# Altium schematic symbol library kmilo17pet-NSC_LDO.SchLib: 2675 symbols (part 15 of 65)
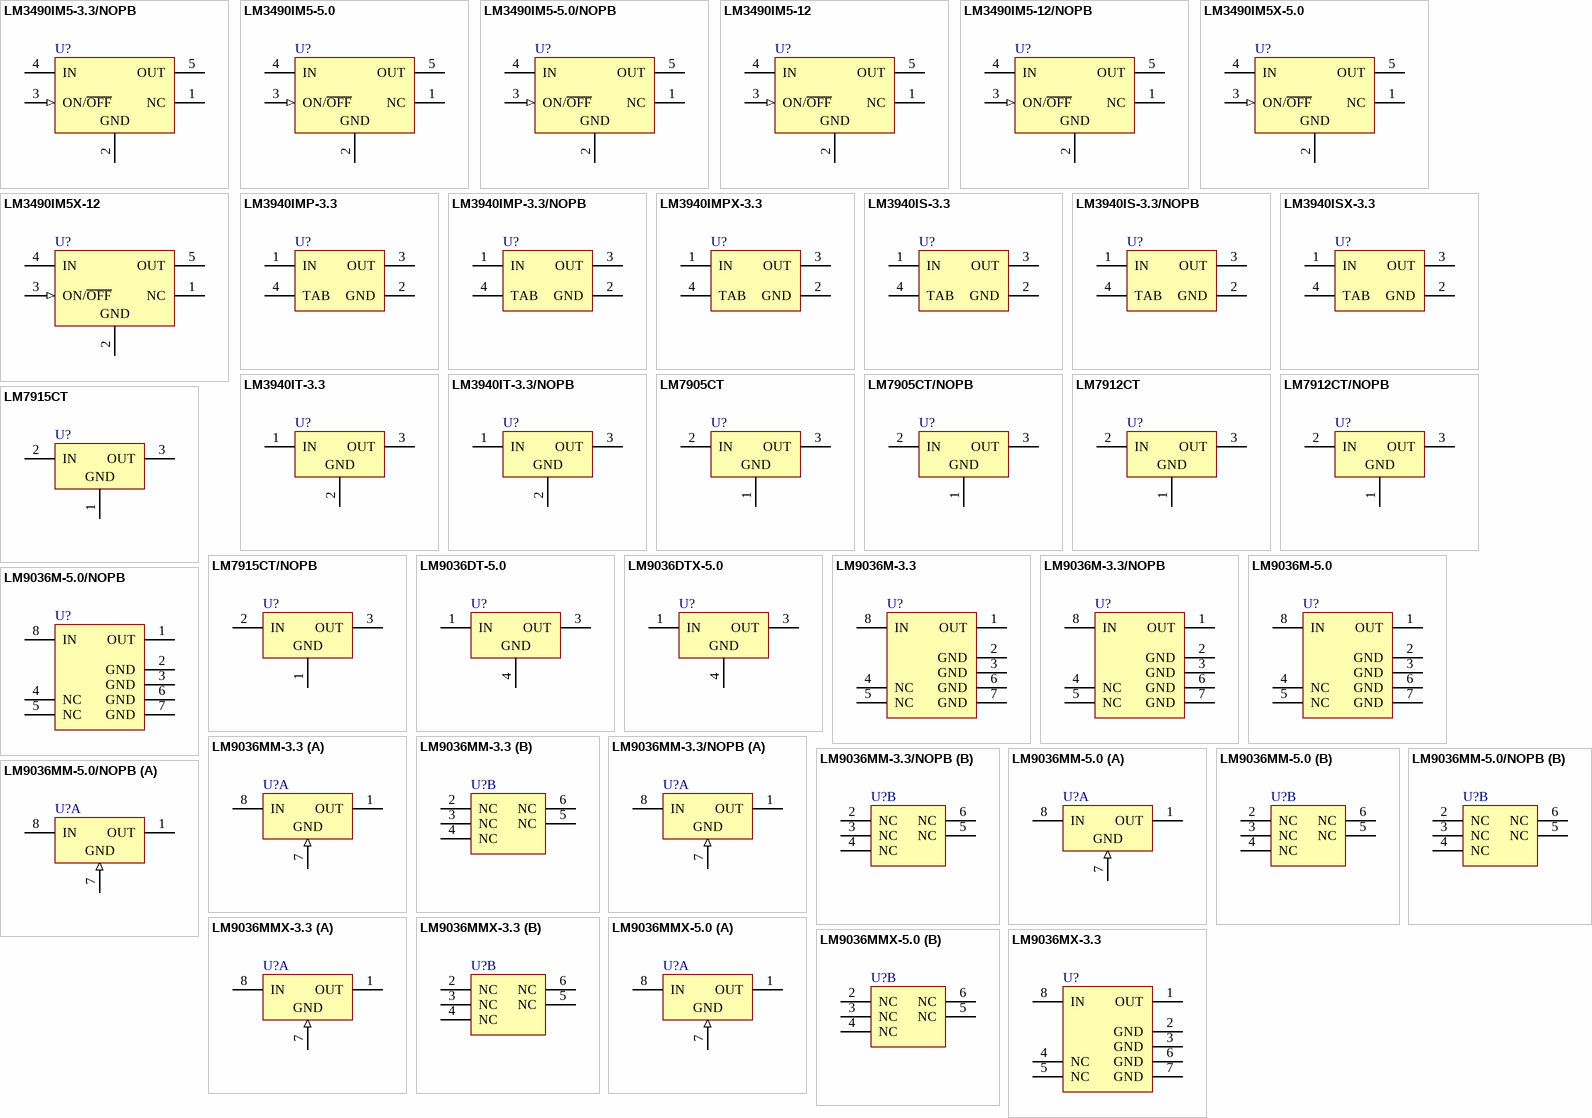
[diagram p81: symbols LM3490IM5-3.3/NOPB to LM9036MX-3.3]

## LM3940ISX-3.3
designator U?
1A Low Dropout Regulator for 5V to 3.3V Conversion, 3-pin TO-263; PartNumber: LM3940ISX-3.3; Manufacturer: National Semiconductor; PackageTopMarking: NSUZXYTTE#*LM3940IS*-3.3 P+; PowerWise: N; CompType: LDO IC; High-Reliability: Y; DatasheetVersion: Jul-2007; PackageVersion: revF, Apr-2005; PackageReference: TS3B; PackageDescription: TO-263, Molded, .400 x .390 x .180in, 3 Lead, .1in Pitch, Surface Mount; RoHS: N; PinCount: 3; Code_JEDEC: MO-169-AA; ComponentLink1Description: Manufacturer URL; ComponentLink1URL: http://www.national.com/; ComponentLink2Description: LM3940 Datasheet; ComponentLink2URL: http://www.national.com/ds/LM/LM3940.pdf; ComponentLink3Description: LM3940 Web Page; ComponentLink3URL: http://www.national.com/pf/LM/LM3940.html; ComponentLink4Description: TS3B Package Page; ComponentLink4URL: http://www.national.com/packaging/folders/ts3b.html
footprint TS3B_N (D2-PAK, 4-Leads, Body 8.6x10.2mm, Pitch 2.54mm, Lead Span 14.2mm, IPC Medium Density)
footprint TS3B_L (D2-PAK, 4-Leads, Body 8.6x10.2mm, Pitch 2.54mm, Lead Span 14.2mm, IPC High Density)
footprint TS3B_M (D2-PAK, 4-Leads, Body 8.6x10.2mm, Pitch 2.54mm, Lead Span 14.2mm, IPC Low Density)
pins: 1 IN (power), 2 GND (power), 3 OUT (power), 4 TAB (power)

## LM3940IT-3.3
designator U?
1A Low Dropout Regulator for 5V to 3.3V Conversion, 3-pin TO-220; PartNumber: LM3940IT-3.3; Manufacturer: National Semiconductor; PackageTopMarking: NSUZXYTTE#*LM3940IT*-3.3 P+; PowerWise: N; CompType: LDO IC; High-Reliability: Y; DatasheetVersion: Jul-2007; PackageVersion: revL, Jan-1992; PackageReference: T03B; PackageDescription: TO-220, Molded, 3 Lead, Straight; RoHS: N; PinCount: 3; ComponentLink1Description: Manufacturer URL; ComponentLink1URL: http://www.national.com/; ComponentLink2Description: LM3940 Datasheet; ComponentLink2URL: http://www.national.com/ds/LM/LM3940.pdf; ComponentLink3Description: LM3940 Web Page; ComponentLink3URL: http://www.national.com/pf/LM/LM3940.html; ComponentLink4Description: T03B Package Page; ComponentLink4URL: http://www.national.com/packaging/folders/t03b.html
footprint T03B (TO, Thru-Hole, Vertical, Heatsink Mounted; 3 In-Line Leads; Pitch 2.54 mm)
pins: 1 IN (power), 2 GND (power), 3 OUT (power)

## LM3940IT-3.3/NOPB
designator U?
1A Low Dropout Regulator for 5V to 3.3V Conversion, 3-pin TO-220, Pb-Free; PartNumber: LM3940IT-3.3/NOPB; Manufacturer: National Semiconductor; PackageTopMarking: NSUZXYTTE#*LM3940IT*-3.3 P+; PowerWise: N; CompType: LDO IC; High-Reliability: Y; DatasheetVersion: Jul-2007; PackageVersion: revL, Jan-1992; PackageReference: T03B; PackageDescription: TO-220, Molded, 3 Lead, Straight; RoHS: Y; PinCount: 3; ComponentLink1Description: Manufacturer URL; ComponentLink1URL: http://www.national.com/; ComponentLink2Description: LM3940 Datasheet; ComponentLink2URL: http://www.national.com/ds/LM/LM3940.pdf; ComponentLink3Description: LM3940 Web Page; ComponentLink3URL: http://www.national.com/pf/LM/LM3940.html; ComponentLink4Description: T03B Package Page; ComponentLink4URL: http://www.national.com/packaging/folders/t03b.html
footprint T03B (TO, Thru-Hole, Vertical, Heatsink Mounted; 3 In-Line Leads; Pitch 2.54 mm)
pins: 1 IN (power), 2 GND (power), 3 OUT (power)

## LM7905CT
designator U?
3-Terminal Negative Regulator, 3-pin TO-220; PartNumber: LM7905CT; Manufacturer: National Semiconductor; PackageTopMarking: NSUZXYTTE#*LM7905CT; PowerWise: N; CompType: LDO IC; High-Reliability: Y; DatasheetVersion: Sep-2001; PackageVersion: revL, Jan-1992; PackageReference: T03B; PackageDescription: TO-220, Molded, 3 Lead, Straight; RoHS: N; PinCount: 3; ComponentLink1Description: Manufacturer URL; ComponentLink1URL: http://www.national.com/; ComponentLink2Description: LM7905 Datasheet; ComponentLink2URL: http://www.national.com/ds/LM/LM7905.pdf; ComponentLink3Description: LM7905 Web Page; ComponentLink3URL: http://www.national.com/pf/LM/LM7905.html; ComponentLink4Description: T03B Package Page; ComponentLink4URL: http://www.national.com/packaging/folders/t03b.html
footprint T03B (TO, Thru-Hole, Vertical, Heatsink Mounted; 3 In-Line Leads; Pitch 2.54 mm)
pins: 1 GND (power), 2 IN (power), 3 OUT (power)

## LM7905CT/NOPB
designator U?
3-Terminal Negative Regulator, 3-pin TO-220, Pb-Free; PartNumber: LM7905CT/NOPB; Manufacturer: National Semiconductor; PackageTopMarking: NSUZXYTTE#*LM7905CT; PowerWise: N; CompType: LDO IC; High-Reliability: Y; DatasheetVersion: Sep-2001; PackageVersion: revL, Jan-1992; PackageReference: T03B; PackageDescription: TO-220, Molded, 3 Lead, Straight; RoHS: Y; PinCount: 3; ComponentLink1Description: Manufacturer URL; ComponentLink1URL: http://www.national.com/; ComponentLink2Description: LM7905 Datasheet; ComponentLink2URL: http://www.national.com/ds/LM/LM7905.pdf; ComponentLink3Description: LM7905 Web Page; ComponentLink3URL: http://www.national.com/pf/LM/LM7905.html; ComponentLink4Description: T03B Package Page; ComponentLink4URL: http://www.national.com/packaging/folders/t03b.html
footprint T03B (TO, Thru-Hole, Vertical, Heatsink Mounted; 3 In-Line Leads; Pitch 2.54 mm)
pins: 1 GND (power), 2 IN (power), 3 OUT (power)

## LM7912CT
designator U?
3-Terminal Negative Regulator, 3-pin TO-220; PartNumber: LM7912CT; Manufacturer: National Semiconductor; PackageTopMarking: NSUZXYTTE#*LM7912CT; PowerWise: N; CompType: LDO IC; High-Reliability: Y; DatasheetVersion: Sep-2001; PackageVersion: revL, Jan-1992; PackageReference: T03B; PackageDescription: TO-220, Molded, 3 Lead, Straight; RoHS: N; PinCount: 3; ComponentLink1Description: Manufacturer URL; ComponentLink1URL: http://www.national.com/; ComponentLink2Description: LM7912 Datasheet; ComponentLink2URL: http://www.national.com/ds/LM/LM7912.pdf; ComponentLink3Description: LM7912 Web Page; ComponentLink3URL: http://www.national.com/pf/LM/LM7912.html; ComponentLink4Description: T03B Package Page; ComponentLink4URL: http://www.national.com/packaging/folders/t03b.html
footprint T03B (TO, Thru-Hole, Vertical, Heatsink Mounted; 3 In-Line Leads; Pitch 2.54 mm)
pins: 1 GND (power), 2 IN (power), 3 OUT (power)

## LM7912CT/NOPB
designator U?
3-Terminal Negative Regulator, 3-pin TO-220, Pb-Free; PartNumber: LM7912CT/NOPB; Manufacturer: National Semiconductor; PackageTopMarking: NSUZXYTTE#*LM7912CT; PowerWise: N; CompType: LDO IC; High-Reliability: Y; DatasheetVersion: Sep-2001; PackageVersion: revL, Jan-1992; PackageReference: T03B; PackageDescription: TO-220, Molded, 3 Lead, Straight; RoHS: Y; PinCount: 3; ComponentLink1Description: Manufacturer URL; ComponentLink1URL: http://www.national.com/; ComponentLink2Description: LM7912 Datasheet; ComponentLink2URL: http://www.national.com/ds/LM/LM7912.pdf; ComponentLink3Description: LM7912 Web Page; ComponentLink3URL: http://www.national.com/pf/LM/LM7912.html; ComponentLink4Description: T03B Package Page; ComponentLink4URL: http://www.national.com/packaging/folders/t03b.html
footprint T03B (TO, Thru-Hole, Vertical, Heatsink Mounted; 3 In-Line Leads; Pitch 2.54 mm)
pins: 1 GND (power), 2 IN (power), 3 OUT (power)

## LM7915CT
designator U?
3-Terminal Negative Regulator, 3-pin TO-220; PartNumber: LM7915CT; Manufacturer: National Semiconductor; PackageTopMarking: NSUZXYTTE#*LM7915CT; PowerWise: N; CompType: LDO IC; High-Reliability: Y; DatasheetVersion: Sep-2001; PackageVersion: revL, Jan-1992; PackageReference: T03B; PackageDescription: TO-220, Molded, 3 Lead, Straight; RoHS: N; PinCount: 3; ComponentLink1Description: Manufacturer URL; ComponentLink1URL: http://www.national.com/; ComponentLink2Description: LM7915 Datasheet; ComponentLink2URL: http://www.national.com/ds/LM/LM7915.pdf; ComponentLink3Description: LM7915 Web Page; ComponentLink3URL: http://www.national.com/pf/LM/LM7915.html; ComponentLink4Description: T03B Package Page; ComponentLink4URL: http://www.national.com/packaging/folders/t03b.html
footprint T03B (TO, Thru-Hole, Vertical, Heatsink Mounted; 3 In-Line Leads; Pitch 2.54 mm)
pins: 1 GND (power), 2 IN (power), 3 OUT (power)

## LM7915CT/NOPB
designator U?
3-Terminal Negative Regulator, 3-pin TO-220, Pb-Free; PartNumber: LM7915CT/NOPB; Manufacturer: National Semiconductor; PackageTopMarking: NSUZXYTTE#*LM7915CT; PowerWise: N; CompType: LDO IC; High-Reliability: Y; DatasheetVersion: Sep-2001; PackageVersion: revL, Jan-1992; PackageReference: T03B; PackageDescription: TO-220, Molded, 3 Lead, Straight; RoHS: Y; PinCount: 3; ComponentLink1Description: Manufacturer URL; ComponentLink1URL: http://www.national.com/; ComponentLink2Description: LM7915 Datasheet; ComponentLink2URL: http://www.national.com/ds/LM/LM7915.pdf; ComponentLink3Description: LM7915 Web Page; ComponentLink3URL: http://www.national.com/pf/LM/LM7915.html; ComponentLink4Description: T03B Package Page; ComponentLink4URL: http://www.national.com/packaging/folders/t03b.html
footprint T03B (TO, Thru-Hole, Vertical, Heatsink Mounted; 3 In-Line Leads; Pitch 2.54 mm)
pins: 1 GND (power), 2 IN (power), 3 OUT (power)

## LM9036DT-5.0
designator U?
Ultra-Low Quiescent Current Voltage Regulator, 3-pin TO-252; PartNumber: LM9036DT-5.0; Manufacturer: National Semiconductor; PackageTopMarking: NSUZXYTT*LM9036D*T-5.0; PowerWise: N; CompType: LDO IC; High-Reliability: Y; DatasheetVersion: Jul-2008; PackageVersion: revD, Feb-2009; PackageReference: TD03B; PackageDescription: TO252, Molded, Jedec, 6.8 x 6.10 x 2.30mm Body, 3 Lead, 2.28mm Pitch, Surface Mount; RoHS: N; PinCount: 3; Code_JEDEC: TO-252-AA; ComponentLink1Description: Manufacturer URL; ComponentLink1URL: http://www.national.com/; ComponentLink2Description: LM9036 Datasheet; ComponentLink2URL: http://www.national.com/ds/LM/LM9036.pdf; ComponentLink3Description: LM9036 Web Page; ComponentLink3URL: http://www.national.com/pf/LM/LM9036.html; ComponentLink4Description: TD03B Package Page; ComponentLink4URL: http://www.national.com/packaging/folders/td03b.html
footprint TD03B_N (D-PAK, 4-Leads, Body 6.1x6.6mm, Pitch 2.29mm, Lead Span 9.7mm, IPC Medium Density)
footprint TD03B_L (D-PAK, 4-Leads, Body 6.1x6.6mm, Pitch 2.29mm, Lead Span 9.7mm, IPC High Density)
footprint TD03B_M (D-PAK, 4-Leads, Body 6.1x6.6mm, Pitch 2.29mm, Lead Span 9.7mm, IPC Low Density)
pins: 1 IN (power), 3 OUT (power), 4 GND (power)

## LM9036DTX-5.0
designator U?
Ultra-Low Quiescent Current Voltage Regulator, 3-pin TO-252; PartNumber: LM9036DTX-5.0; Manufacturer: National Semiconductor; PackageTopMarking: NSUZXYTT*LM9036D*T-5.0; PowerWise: N; CompType: LDO IC; High-Reliability: Y; DatasheetVersion: Jul-2008; PackageVersion: revD, Feb-2009; PackageReference: TD03B; PackageDescription: TO252, Molded, Jedec, 6.8 x 6.10 x 2.30mm Body, 3 Lead, 2.28mm Pitch, Surface Mount; RoHS: N; PinCount: 3; Code_JEDEC: TO-252-AA; ComponentLink1Description: Manufacturer URL; ComponentLink1URL: http://www.national.com/; ComponentLink2Description: LM9036 Datasheet; ComponentLink2URL: http://www.national.com/ds/LM/LM9036.pdf; ComponentLink3Description: LM9036 Web Page; ComponentLink3URL: http://www.national.com/pf/LM/LM9036.html; ComponentLink4Description: TD03B Package Page; ComponentLink4URL: http://www.national.com/packaging/folders/td03b.html
footprint TD03B_N (D-PAK, 4-Leads, Body 6.1x6.6mm, Pitch 2.29mm, Lead Span 9.7mm, IPC Medium Density)
footprint TD03B_L (D-PAK, 4-Leads, Body 6.1x6.6mm, Pitch 2.29mm, Lead Span 9.7mm, IPC High Density)
footprint TD03B_M (D-PAK, 4-Leads, Body 6.1x6.6mm, Pitch 2.29mm, Lead Span 9.7mm, IPC Low Density)
pins: 1 IN (power), 3 OUT (power), 4 GND (power)

## LM9036M-3.3
designator U?
Ultra-Low Quiescent Current Voltage Regulator, 8-pin Narrow SOIC; PartNumber: LM9036M-3.3; Manufacturer: National Semiconductor; PackageTopMarking: NSZXTT*LM903*6M-3; PowerWise: N; CompType: LDO IC; High-Reliability: Y; DatasheetVersion: Jul-2008; PackageVersion: revM, May-2009; PackageReference: M08A; PackageDescription: SOIC Narrow, 4.9 x 3.9 x 1.45mm, 8 Lead, 1.27mm Pitch; RoHS: N; PinCount: 8; Code_JEDEC: MS-012-AA; Code_IPC: SOIC127P600-8; ComponentLink1Description: Manufacturer URL; ComponentLink1URL: http://www.national.com/; ComponentLink2Description: LM9036 Datasheet; ComponentLink2URL: http://www.national.com/ds/LM/LM9036.pdf; ComponentLink3Description: LM9036 Web Page; ComponentLink3URL: http://www.national.com/pf/LM/LM9036.html; ComponentLink4Description: M08A Package Page; ComponentLink4URL: http://www.national.com/packaging/folders/m08a.html
footprint M08A_N (SOIC, 8-Leads, Body 4.9x3.9mm, Pitch 1.27mm, IPC Medium Density)
footprint M08A_L (SOIC, 8-Leads, Body 4.9x3.9mm, Pitch 1.27mm, IPC High Density)
footprint M08A_M (SOIC, 8-Leads, Body 4.9x3.9mm, Pitch 1.27mm, IPC Low Density)
pins: 1 OUT (power), 2 GND (power), 3 GND (power), 4 NC, 5 NC, 6 GND (power), 7 GND (power), 8 IN (power)

## LM9036M-3.3/NOPB
designator U?
Ultra-Low Quiescent Current Voltage Regulator, 8-pin Narrow SOIC, Pb-Free; PartNumber: LM9036M-3.3/NOPB; Manufacturer: National Semiconductor; PackageTopMarking: NSZXTT*LM903*6M-3; PowerWise: N; CompType: LDO IC; High-Reliability: Y; DatasheetVersion: Jul-2008; PackageVersion: revM, May-2009; PackageReference: M08A; PackageDescription: SOIC Narrow, 4.9 x 3.9 x 1.45mm, 8 Lead, 1.27mm Pitch; RoHS: Y; PinCount: 8; Code_JEDEC: MS-012-AA; Code_IPC: SOIC127P600-8; ComponentLink1Description: Manufacturer URL; ComponentLink1URL: http://www.national.com/; ComponentLink2Description: LM9036 Datasheet; ComponentLink2URL: http://www.national.com/ds/LM/LM9036.pdf; ComponentLink3Description: LM9036 Web Page; ComponentLink3URL: http://www.national.com/pf/LM/LM9036.html; ComponentLink4Description: M08A Package Page; ComponentLink4URL: http://www.national.com/packaging/folders/m08a.html
footprint M08A_N (SOIC, 8-Leads, Body 4.9x3.9mm, Pitch 1.27mm, IPC Medium Density)
footprint M08A_L (SOIC, 8-Leads, Body 4.9x3.9mm, Pitch 1.27mm, IPC High Density)
footprint M08A_M (SOIC, 8-Leads, Body 4.9x3.9mm, Pitch 1.27mm, IPC Low Density)
pins: 1 OUT (power), 2 GND (power), 3 GND (power), 4 NC, 5 NC, 6 GND (power), 7 GND (power), 8 IN (power)

## LM9036M-5.0
designator U?
Ultra-Low Quiescent Current Voltage Regulator, 8-pin Narrow SOIC; PartNumber: LM9036M-5.0; Manufacturer: National Semiconductor; PackageTopMarking: NSZXTT*LM903*6M-5; PowerWise: N; CompType: LDO IC; High-Reliability: Y; DatasheetVersion: Jul-2008; PackageVersion: revM, May-2009; PackageReference: M08A; PackageDescription: SOIC Narrow, 4.9 x 3.9 x 1.45mm, 8 Lead, 1.27mm Pitch; RoHS: N; PinCount: 8; Code_JEDEC: MS-012-AA; Code_IPC: SOIC127P600-8; ComponentLink1Description: Manufacturer URL; ComponentLink1URL: http://www.national.com/; ComponentLink2Description: LM9036 Datasheet; ComponentLink2URL: http://www.national.com/ds/LM/LM9036.pdf; ComponentLink3Description: LM9036 Web Page; ComponentLink3URL: http://www.national.com/pf/LM/LM9036.html; ComponentLink4Description: M08A Package Page; ComponentLink4URL: http://www.national.com/packaging/folders/m08a.html
footprint M08A_N (SOIC, 8-Leads, Body 4.9x3.9mm, Pitch 1.27mm, IPC Medium Density)
footprint M08A_L (SOIC, 8-Leads, Body 4.9x3.9mm, Pitch 1.27mm, IPC High Density)
footprint M08A_M (SOIC, 8-Leads, Body 4.9x3.9mm, Pitch 1.27mm, IPC Low Density)
pins: 1 OUT (power), 2 GND (power), 3 GND (power), 4 NC, 5 NC, 6 GND (power), 7 GND (power), 8 IN (power)

## LM9036M-5.0/NOPB
designator U?
Ultra-Low Quiescent Current Voltage Regulator, 8-pin Narrow SOIC, Pb-Free; PartNumber: LM9036M-5.0/NOPB; Manufacturer: National Semiconductor; PackageTopMarking: NSZXTT*LM903*6M-5; PowerWise: N; CompType: LDO IC; High-Reliability: Y; DatasheetVersion: Jul-2008; PackageVersion: revM, May-2009; PackageReference: M08A; PackageDescription: SOIC Narrow, 4.9 x 3.9 x 1.45mm, 8 Lead, 1.27mm Pitch; RoHS: Y; PinCount: 8; Code_JEDEC: MS-012-AA; Code_IPC: SOIC127P600-8; ComponentLink1Description: Manufacturer URL; ComponentLink1URL: http://www.national.com/; ComponentLink2Description: LM9036 Datasheet; ComponentLink2URL: http://www.national.com/ds/LM/LM9036.pdf; ComponentLink3Description: LM9036 Web Page; ComponentLink3URL: http://www.national.com/pf/LM/LM9036.html; ComponentLink4Description: M08A Package Page; ComponentLink4URL: http://www.national.com/packaging/folders/m08a.html
footprint M08A_N (SOIC, 8-Leads, Body 4.9x3.9mm, Pitch 1.27mm, IPC Medium Density)
footprint M08A_L (SOIC, 8-Leads, Body 4.9x3.9mm, Pitch 1.27mm, IPC High Density)
footprint M08A_M (SOIC, 8-Leads, Body 4.9x3.9mm, Pitch 1.27mm, IPC Low Density)
pins: 1 OUT (power), 2 GND (power), 3 GND (power), 4 NC, 5 NC, 6 GND (power), 7 GND (power), 8 IN (power)

## LM9036MM-3.3
designator U?
Ultra-Low Quiescent Current Voltage Regulator, 8-pin Mini SOIC; PartNumber: LM9036MM-3.3; Manufacturer: National Semiconductor; PackageTopMarking: ZXTT*KDB; PowerWise: N; CompType: LDO IC; High-Reliability: Y; DatasheetVersion: Jul-2008; PackageVersion: revF, Apr-2008; PackageReference: MUA08A; PackageDescription: MINI SOIC, .118 x .118 x .034in, 8 Lead, .0256in Pitch; RoHS: N; PinCount: 8; Code_JEDEC: MO-187-AA; ComponentLink1Description: Manufacturer URL; ComponentLink1URL: http://www.national.com/; ComponentLink2Description: LM9036 Datasheet; ComponentLink2URL: http://www.national.com/ds/LM/LM9036.pdf; ComponentLink3Description: LM9036 Web Page; ComponentLink3URL: http://www.national.com/pf/LM/LM9036.html; ComponentLink4Description: MUA08A Package Page; ComponentLink4URL: http://www.national.com/packaging/folders/mua08a.html
footprint MUA08A_N (TSOP, 8-Leads, Body 3x3mm, Pitch 0.65mm, IPC Medium Density)
footprint MUA08A_L (TSOP, 8-Leads, Body 3x3mm, Pitch 0.65mm, IPC High Density)
footprint MUA08A_M (TSOP, 8-Leads, Body 3x3mm, Pitch 0.65mm, IPC Low Density)
part A pins: 1 OUT (power), 7 ADJ (in), 8 IN (power)
part B pins: 2 NC, 3 NC, 4 NC, 5 NC, 6 NC
part A text: GND

## LM9036MM-3.3/NOPB
designator U?
Ultra-Low Quiescent Current Voltage Regulator, 8-pin Mini SOIC, Pb-Free; PartNumber: LM9036MM-3.3/NOPB; Manufacturer: National Semiconductor; PackageTopMarking: ZXTT*KDB; PowerWise: N; CompType: LDO IC; High-Reliability: Y; DatasheetVersion: Jul-2008; PackageVersion: revF, Apr-2008; PackageReference: MUA08A; PackageDescription: MINI SOIC, .118 x .118 x .034in, 8 Lead, .0256in Pitch; RoHS: Y; PinCount: 8; Code_JEDEC: MO-187-AA; ComponentLink1Description: Manufacturer URL; ComponentLink1URL: http://www.national.com/; ComponentLink2Description: LM9036 Datasheet; ComponentLink2URL: http://www.national.com/ds/LM/LM9036.pdf; ComponentLink3Description: LM9036 Web Page; ComponentLink3URL: http://www.national.com/pf/LM/LM9036.html; ComponentLink4Description: MUA08A Package Page; ComponentLink4URL: http://www.national.com/packaging/folders/mua08a.html
footprint MUA08A_N (TSOP, 8-Leads, Body 3x3mm, Pitch 0.65mm, IPC Medium Density)
footprint MUA08A_L (TSOP, 8-Leads, Body 3x3mm, Pitch 0.65mm, IPC High Density)
footprint MUA08A_M (TSOP, 8-Leads, Body 3x3mm, Pitch 0.65mm, IPC Low Density)
part A pins: 1 OUT (power), 7 ADJ (in), 8 IN (power)
part B pins: 2 NC, 3 NC, 4 NC, 5 NC, 6 NC
part A text: GND

## LM9036MM-5.0
designator U?
Ultra-Low Quiescent Current Voltage Regulator, 8-pin Mini SOIC; PartNumber: LM9036MM-5.0; Manufacturer: National Semiconductor; PackageTopMarking: ZXTT*KDA; PowerWise: N; CompType: LDO IC; High-Reliability: Y; DatasheetVersion: Jul-2008; PackageVersion: revF, Apr-2008; PackageReference: MUA08A; PackageDescription: MINI SOIC, .118 x .118 x .034in, 8 Lead, .0256in Pitch; RoHS: N; PinCount: 8; Code_JEDEC: MO-187-AA; ComponentLink1Description: Manufacturer URL; ComponentLink1URL: http://www.national.com/; ComponentLink2Description: LM9036 Datasheet; ComponentLink2URL: http://www.national.com/ds/LM/LM9036.pdf; ComponentLink3Description: LM9036 Web Page; ComponentLink3URL: http://www.national.com/pf/LM/LM9036.html; ComponentLink4Description: MUA08A Package Page; ComponentLink4URL: http://www.national.com/packaging/folders/mua08a.html
footprint MUA08A_N (TSOP, 8-Leads, Body 3x3mm, Pitch 0.65mm, IPC Medium Density)
footprint MUA08A_L (TSOP, 8-Leads, Body 3x3mm, Pitch 0.65mm, IPC High Density)
footprint MUA08A_M (TSOP, 8-Leads, Body 3x3mm, Pitch 0.65mm, IPC Low Density)
part A pins: 1 OUT (power), 7 ADJ (in), 8 IN (power)
part B pins: 2 NC, 3 NC, 4 NC, 5 NC, 6 NC
part A text: GND

## LM9036MM-5.0/NOPB
designator U?
Ultra-Low Quiescent Current Voltage Regulator, 8-pin Mini SOIC, Pb-Free; PartNumber: LM9036MM-5.0/NOPB; Manufacturer: National Semiconductor; PackageTopMarking: ZXTT*KDA; PowerWise: N; CompType: LDO IC; High-Reliability: Y; DatasheetVersion: Jul-2008; PackageVersion: revF, Apr-2008; PackageReference: MUA08A; PackageDescription: MINI SOIC, .118 x .118 x .034in, 8 Lead, .0256in Pitch; RoHS: Y; PinCount: 8; Code_JEDEC: MO-187-AA; ComponentLink1Description: Manufacturer URL; ComponentLink1URL: http://www.national.com/; ComponentLink2Description: LM9036 Datasheet; ComponentLink2URL: http://www.national.com/ds/LM/LM9036.pdf; ComponentLink3Description: LM9036 Web Page; ComponentLink3URL: http://www.national.com/pf/LM/LM9036.html; ComponentLink4Description: MUA08A Package Page; ComponentLink4URL: http://www.national.com/packaging/folders/mua08a.html
footprint MUA08A_N (TSOP, 8-Leads, Body 3x3mm, Pitch 0.65mm, IPC Medium Density)
footprint MUA08A_L (TSOP, 8-Leads, Body 3x3mm, Pitch 0.65mm, IPC High Density)
footprint MUA08A_M (TSOP, 8-Leads, Body 3x3mm, Pitch 0.65mm, IPC Low Density)
part A pins: 1 OUT (power), 7 ADJ (in), 8 IN (power)
part B pins: 2 NC, 3 NC, 4 NC, 5 NC, 6 NC
part A text: GND

## LM9036MMX-3.3
designator U?
Ultra-Low Quiescent Current Voltage Regulator, 8-pin Mini SOIC; PartNumber: LM9036MMX-3.3; Manufacturer: National Semiconductor; PackageTopMarking: ZXTT*KDB; PowerWise: N; CompType: LDO IC; High-Reliability: Y; DatasheetVersion: Jul-2008; PackageVersion: revF, Apr-2008; PackageReference: MUA08A; PackageDescription: MINI SOIC, .118 x .118 x .034in, 8 Lead, .0256in Pitch; RoHS: N; PinCount: 8; Code_JEDEC: MO-187-AA; ComponentLink1Description: Manufacturer URL; ComponentLink1URL: http://www.national.com/; ComponentLink2Description: LM9036 Datasheet; ComponentLink2URL: http://www.national.com/ds/LM/LM9036.pdf; ComponentLink3Description: LM9036 Web Page; ComponentLink3URL: http://www.national.com/pf/LM/LM9036.html; ComponentLink4Description: MUA08A Package Page; ComponentLink4URL: http://www.national.com/packaging/folders/mua08a.html
footprint MUA08A_N (TSOP, 8-Leads, Body 3x3mm, Pitch 0.65mm, IPC Medium Density)
footprint MUA08A_L (TSOP, 8-Leads, Body 3x3mm, Pitch 0.65mm, IPC High Density)
footprint MUA08A_M (TSOP, 8-Leads, Body 3x3mm, Pitch 0.65mm, IPC Low Density)
part A pins: 1 OUT (power), 7 ADJ (in), 8 IN (power)
part B pins: 2 NC, 3 NC, 4 NC, 5 NC, 6 NC
part A text: GND

## LM9036MMX-5.0
designator U?
Ultra-Low Quiescent Current Voltage Regulator, 8-pin Mini SOIC; PartNumber: LM9036MMX-5.0; Manufacturer: National Semiconductor; PackageTopMarking: ZXTT*KDA; PowerWise: N; CompType: LDO IC; High-Reliability: Y; DatasheetVersion: Jul-2008; PackageVersion: revF, Apr-2008; PackageReference: MUA08A; PackageDescription: MINI SOIC, .118 x .118 x .034in, 8 Lead, .0256in Pitch; RoHS: N; PinCount: 8; Code_JEDEC: MO-187-AA; ComponentLink1Description: Manufacturer URL; ComponentLink1URL: http://www.national.com/; ComponentLink2Description: LM9036 Datasheet; ComponentLink2URL: http://www.national.com/ds/LM/LM9036.pdf; ComponentLink3Description: LM9036 Web Page; ComponentLink3URL: http://www.national.com/pf/LM/LM9036.html; ComponentLink4Description: MUA08A Package Page; ComponentLink4URL: http://www.national.com/packaging/folders/mua08a.html
footprint MUA08A_N (TSOP, 8-Leads, Body 3x3mm, Pitch 0.65mm, IPC Medium Density)
footprint MUA08A_L (TSOP, 8-Leads, Body 3x3mm, Pitch 0.65mm, IPC High Density)
footprint MUA08A_M (TSOP, 8-Leads, Body 3x3mm, Pitch 0.65mm, IPC Low Density)
part A pins: 1 OUT (power), 7 ADJ (in), 8 IN (power)
part B pins: 2 NC, 3 NC, 4 NC, 5 NC, 6 NC
part A text: GND

## LM9036MX-3.3
designator U?
Ultra-Low Quiescent Current Voltage Regulator, 8-pin Narrow SOIC; PartNumber: LM9036MX-3.3; Manufacturer: National Semiconductor; PackageTopMarking: NSZXTT*LM903*6M-3; PowerWise: N; CompType: LDO IC; High-Reliability: Y; DatasheetVersion: Jul-2008; PackageVersion: revM, May-2009; PackageReference: M08A; PackageDescription: SOIC Narrow, 4.9 x 3.9 x 1.45mm, 8 Lead, 1.27mm Pitch; RoHS: N; PinCount: 8; Code_JEDEC: MS-012-AA; Code_IPC: SOIC127P600-8; ComponentLink1Description: Manufacturer URL; ComponentLink1URL: http://www.national.com/; ComponentLink2Description: LM9036 Datasheet; ComponentLink2URL: http://www.national.com/ds/LM/LM9036.pdf; ComponentLink3Description: LM9036 Web Page; ComponentLink3URL: http://www.national.com/pf/LM/LM9036.html; ComponentLink4Description: M08A Package Page; ComponentLink4URL: http://www.national.com/packaging/folders/m08a.html
footprint M08A_N (SOIC, 8-Leads, Body 4.9x3.9mm, Pitch 1.27mm, IPC Medium Density)
footprint M08A_L (SOIC, 8-Leads, Body 4.9x3.9mm, Pitch 1.27mm, IPC High Density)
footprint M08A_M (SOIC, 8-Leads, Body 4.9x3.9mm, Pitch 1.27mm, IPC Low Density)
pins: 1 OUT (power), 2 GND (power), 3 GND (power), 4 NC, 5 NC, 6 GND (power), 7 GND (power), 8 IN (power)

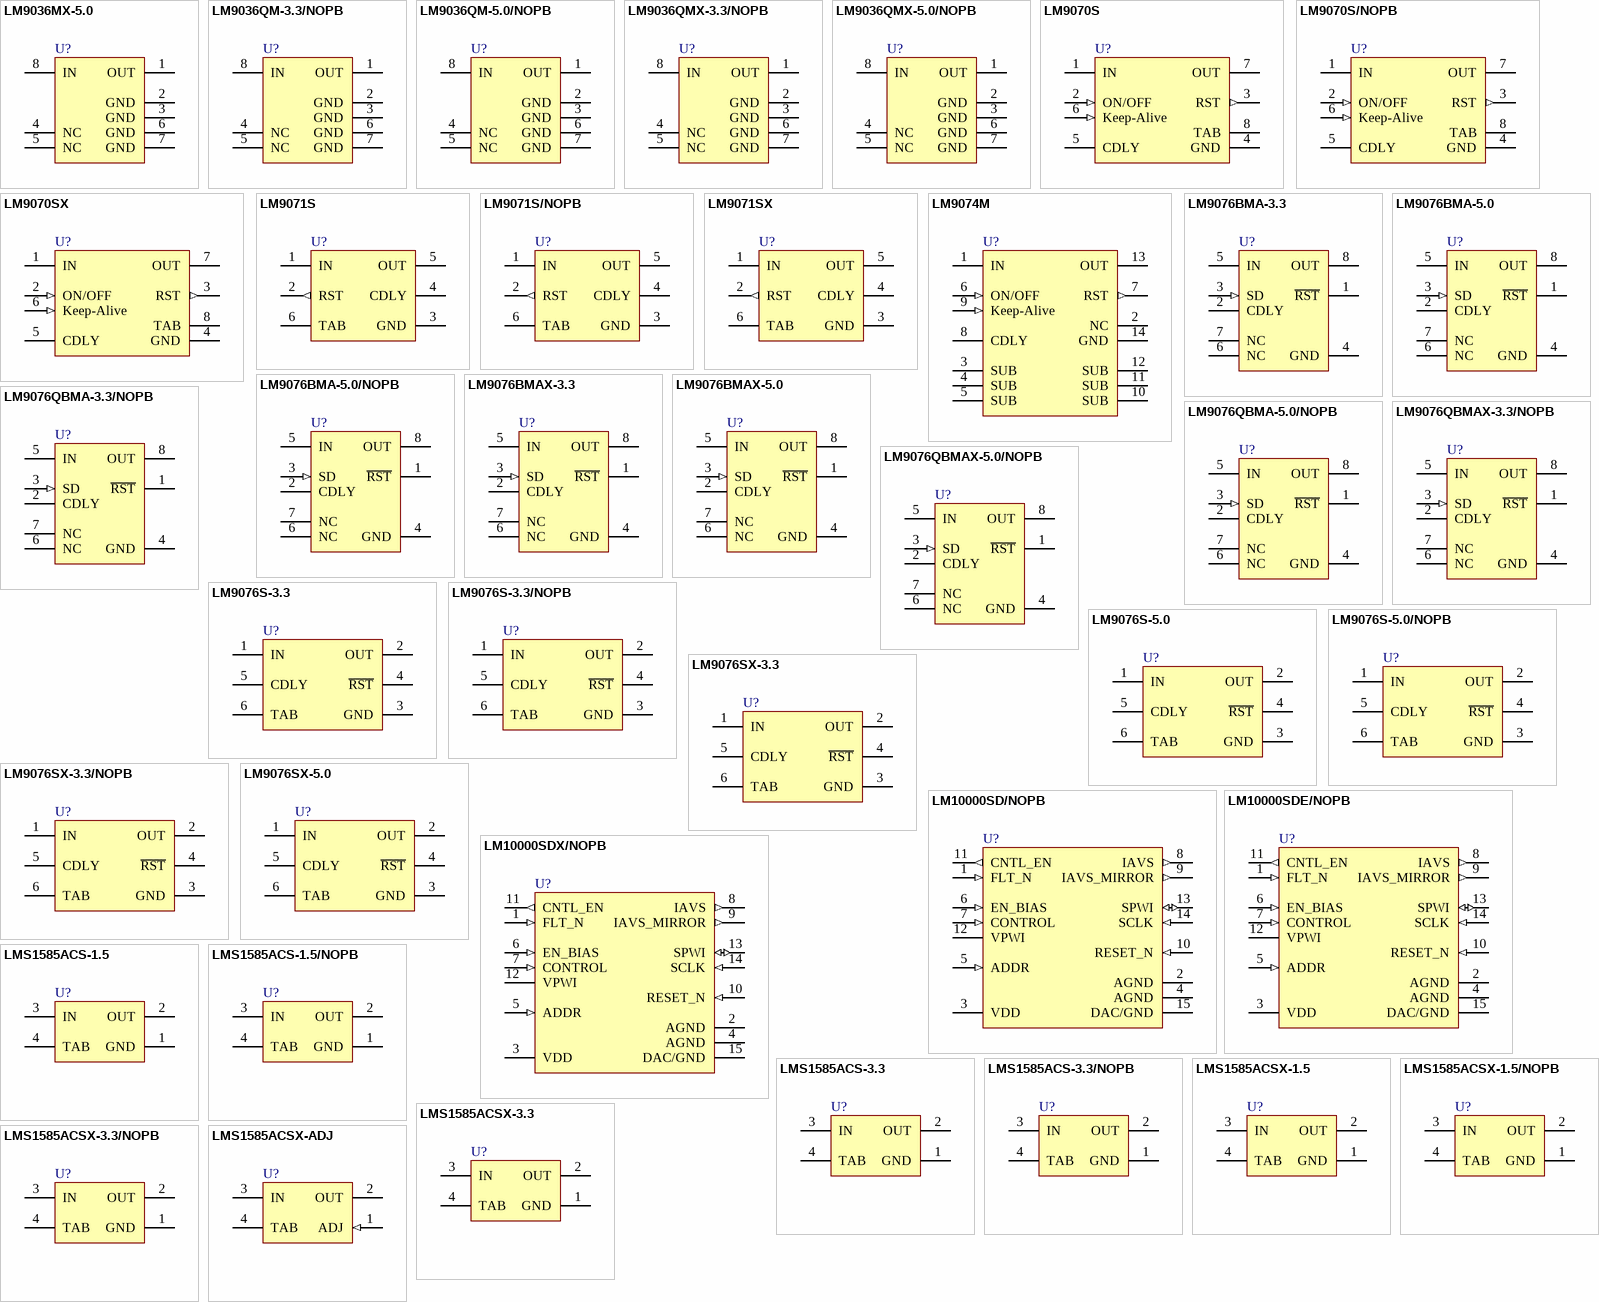
[diagram p16: symbols LM9036MX-5.0 to LMS1585ACSX-ADJ]

## LM9036MX-5.0
designator U?
Ultra-Low Quiescent Current Voltage Regulator, 8-pin Narrow SOIC; PartNumber: LM9036MX-5.0; Manufacturer: National Semiconductor; PackageTopMarking: NSZXTT*LM903*6M-5; PowerWise: N; CompType: LDO IC; High-Reliability: Y; DatasheetVersion: Jul-2008; PackageVersion: revM, May-2009; PackageReference: M08A; PackageDescription: SOIC Narrow, 4.9 x 3.9 x 1.45mm, 8 Lead, 1.27mm Pitch; RoHS: N; PinCount: 8; Code_JEDEC: MS-012-AA; Code_IPC: SOIC127P600-8; ComponentLink1Description: Manufacturer URL; ComponentLink1URL: http://www.national.com/; ComponentLink2Description: LM9036 Datasheet; ComponentLink2URL: http://www.national.com/ds/LM/LM9036.pdf; ComponentLink3Description: LM9036 Web Page; ComponentLink3URL: http://www.national.com/pf/LM/LM9036.html; ComponentLink4Description: M08A Package Page; ComponentLink4URL: http://www.national.com/packaging/folders/m08a.html
footprint M08A_N (SOIC, 8-Leads, Body 4.9x3.9mm, Pitch 1.27mm, IPC Medium Density)
footprint M08A_L (SOIC, 8-Leads, Body 4.9x3.9mm, Pitch 1.27mm, IPC High Density)
footprint M08A_M (SOIC, 8-Leads, Body 4.9x3.9mm, Pitch 1.27mm, IPC Low Density)
pins: 1 OUT (power), 2 GND (power), 3 GND (power), 4 NC, 5 NC, 6 GND (power), 7 GND (power), 8 IN (power)

## LM9036QM-3.3/NOPB
designator U?
Ultra-Low Quiescent Current Voltage Regulator, 8-pin Narrow SOIC, Rail, Pb-Free; PartNumber: LM9036QM-3.3/NOPB; Manufacturer: National Semiconductor; PackageTopMarking: NSZXTT*LM903*6QM-3; PowerWise: N; CompType: LDO IC; High-Reliability: Y; DatasheetVersion: Nov-2010; PackageVersion: revM, May-2009; PackageReference: M08A; PackageDescription: SOIC Narrow, 4.9 x 3.9 x 1.45mm, 8 Lead, 1.27mm Pitch; RoHS: Y; PinCount: 8; Code_JEDEC: MS-012-AA; Code_IPC: SOIC127P600-8; ComponentLink1Description: Manufacturer URL; ComponentLink1URL: http://www.national.com/; ComponentLink2Description: LM9036 Datasheet; ComponentLink2URL: http://www.national.com/ds/LM/LM9036Q.pdf; ComponentLink3Description: LM9036 Web Page; ComponentLink3URL: http://www.national.com/pf/LM/LM9036.html; ComponentLink4Description: M08A Package Page; ComponentLink4URL: http://www.national.com/packaging/folders/m08a.html
footprint M08A_N (SOIC, 8-Leads, Body 4.9x3.9mm, Pitch 1.27mm, IPC Medium Density)
footprint M08A_L (SOIC, 8-Leads, Body 4.9x3.9mm, Pitch 1.27mm, IPC High Density)
footprint M08A_M (SOIC, 8-Leads, Body 4.9x3.9mm, Pitch 1.27mm, IPC Low Density)
pins: 1 OUT (power), 2 GND (power), 3 GND (power), 4 NC, 5 NC, 6 GND (power), 7 GND (power), 8 IN (power)

## LM9036QM-5.0/NOPB
designator U?
Ultra-Low Quiescent Current Voltage Regulator, 8-pin Narrow SOIC, Rail, Pb-Free; PartNumber: LM9036QM-5.0/NOPB; Manufacturer: National Semiconductor; PackageTopMarking: NSZXTT*LM903*6QM-5; PowerWise: N; CompType: LDO IC; High-Reliability: Y; DatasheetVersion: Nov-2010; PackageVersion: revM, May-2009; PackageReference: M08A; PackageDescription: SOIC Narrow, 4.9 x 3.9 x 1.45mm, 8 Lead, 1.27mm Pitch; RoHS: Y; PinCount: 8; Code_JEDEC: MS-012-AA; Code_IPC: SOIC127P600-8; ComponentLink1Description: Manufacturer URL; ComponentLink1URL: http://www.national.com/; ComponentLink2Description: LM9036 Datasheet; ComponentLink2URL: http://www.national.com/ds/LM/LM9036Q.pdf; ComponentLink3Description: LM9036 Web Page; ComponentLink3URL: http://www.national.com/pf/LM/LM9036.html; ComponentLink4Description: M08A Package Page; ComponentLink4URL: http://www.national.com/packaging/folders/m08a.html
footprint M08A_N (SOIC, 8-Leads, Body 4.9x3.9mm, Pitch 1.27mm, IPC Medium Density)
footprint M08A_L (SOIC, 8-Leads, Body 4.9x3.9mm, Pitch 1.27mm, IPC High Density)
footprint M08A_M (SOIC, 8-Leads, Body 4.9x3.9mm, Pitch 1.27mm, IPC Low Density)
pins: 1 OUT (power), 2 GND (power), 3 GND (power), 4 NC, 5 NC, 6 GND (power), 7 GND (power), 8 IN (power)

## LM9036QMX-3.3/NOPB
designator U?
Ultra-Low Quiescent Current Voltage Regulator, 8-pin Narrow SOIC, Tape and Reel, Pb-Free; PartNumber: LM9036QMX-3.3/NOPB; Manufacturer: National Semiconductor; PackageTopMarking: NSZXTT*LM903*6QM-3; PowerWise: N; CompType: LDO IC; High-Reliability: Y; DatasheetVersion: Nov-2010; PackageVersion: revM, May-2009; PackageReference: M08A; PackageDescription: SOIC Narrow, 4.9 x 3.9 x 1.45mm, 8 Lead, 1.27mm Pitch; RoHS: Y; PinCount: 8; Code_JEDEC: MS-012-AA; Code_IPC: SOIC127P600-8; ComponentLink1Description: Manufacturer URL; ComponentLink1URL: http://www.national.com/; ComponentLink2Description: LM9036 Datasheet; ComponentLink2URL: http://www.national.com/ds/LM/LM9036Q.pdf; ComponentLink3Description: LM9036 Web Page; ComponentLink3URL: http://www.national.com/pf/LM/LM9036.html; ComponentLink4Description: M08A Package Page; ComponentLink4URL: http://www.national.com/packaging/folders/m08a.html
footprint M08A_N (SOIC, 8-Leads, Body 4.9x3.9mm, Pitch 1.27mm, IPC Medium Density)
footprint M08A_L (SOIC, 8-Leads, Body 4.9x3.9mm, Pitch 1.27mm, IPC High Density)
footprint M08A_M (SOIC, 8-Leads, Body 4.9x3.9mm, Pitch 1.27mm, IPC Low Density)
pins: 1 OUT (power), 2 GND (power), 3 GND (power), 4 NC, 5 NC, 6 GND (power), 7 GND (power), 8 IN (power)

## LM9036QMX-5.0/NOPB
designator U?
Ultra-Low Quiescent Current Voltage Regulator, 8-pin Narrow SOIC, Tape and Reel, Pb-Free; PartNumber: LM9036QMX-5.0/NOPB; Manufacturer: National Semiconductor; PackageTopMarking: NSZXTT*LM903*6QM-5; PowerWise: N; CompType: LDO IC; High-Reliability: Y; DatasheetVersion: Nov-2010; PackageVersion: revM, May-2009; PackageReference: M08A; PackageDescription: SOIC Narrow, 4.9 x 3.9 x 1.45mm, 8 Lead, 1.27mm Pitch; RoHS: Y; PinCount: 8; Code_JEDEC: MS-012-AA; Code_IPC: SOIC127P600-8; ComponentLink1Description: Manufacturer URL; ComponentLink1URL: http://www.national.com/; ComponentLink2Description: LM9036 Datasheet; ComponentLink2URL: http://www.national.com/ds/LM/LM9036Q.pdf; ComponentLink3Description: LM9036 Web Page; ComponentLink3URL: http://www.national.com/pf/LM/LM9036.html; ComponentLink4Description: M08A Package Page; ComponentLink4URL: http://www.national.com/packaging/folders/m08a.html
footprint M08A_N (SOIC, 8-Leads, Body 4.9x3.9mm, Pitch 1.27mm, IPC Medium Density)
footprint M08A_L (SOIC, 8-Leads, Body 4.9x3.9mm, Pitch 1.27mm, IPC High Density)
footprint M08A_M (SOIC, 8-Leads, Body 4.9x3.9mm, Pitch 1.27mm, IPC Low Density)
pins: 1 OUT (power), 2 GND (power), 3 GND (power), 4 NC, 5 NC, 6 GND (power), 7 GND (power), 8 IN (power)

## LM9070S
designator U?
Low-Dropout System Voltage Regulator with Keep-Alive ON/OFF Control, 7-pin TO-263; PartNumber: LM9070S; Manufacturer: National Semiconductor; PackageTopMarking: NSUZXYTTE#*LM9070S; PowerWise: N; CompType: LDO IC; High-Reliability: Y; DatasheetVersion: Mar-2005; PackageVersion: revE, Jul-2003; PackageReference: TS7B; PackageDescription: TO-263, Molded, .400 x .390 x .180in Body, 7 Lead, .050in Pitch, Surface Mount; RoHS: N; PinCount: 7; Code_JEDEC: MO-169-AC; ComponentLink1Description: Manufacturer URL; ComponentLink1URL: http://www.national.com/; ComponentLink2Description: LM9070 Datasheet; ComponentLink2URL: http://www.national.com/ds/LM/LM9070.pdf; ComponentLink3Description: LM9070 Web Page; ComponentLink3URL: http://www.national.com/pf/LM/LM9070.html; ComponentLink4Description: TS7B Package Page; ComponentLink4URL: http://www.national.com/packaging/folders/ts7b.html
footprint TS7B_N (D2-PAK, 8-Leads, Body 8.6x10.2mm, Pitch 1.27mm, Lead Span 14.1mm, IPC Medium Density)
footprint TS7B_L (D2-PAK, 8-Leads, Body 8.6x10.2mm, Pitch 1.27mm, Lead Span 14.1mm, IPC High Density)
footprint TS7B_M (D2-PAK, 8-Leads, Body 8.6x10.2mm, Pitch 1.27mm, Lead Span 14.1mm, IPC Low Density)
pins: 1 IN (power), 2 ON/OFF (in), 3 RST (out), 4 GND (power), 5 CDLY, 6 Keep-Alive (in), 7 OUT (power), 8 TAB (power)

## LM9070S/NOPB
designator U?
Low-Dropout System Voltage Regulator with Keep-Alive ON/OFF Control, 7-pin TO-263, Pb-Free; PartNumber: LM9070S/NOPB; Manufacturer: National Semiconductor; PackageTopMarking: NSUZXYTTE#*LM9070S; PowerWise: N; CompType: LDO IC; High-Reliability: Y; DatasheetVersion: Mar-2005; PackageVersion: revE, Jul-2003; PackageReference: TS7B; PackageDescription: TO-263, Molded, .400 x .390 x .180in Body, 7 Lead, .050in Pitch, Surface Mount; RoHS: Y; PinCount: 7; Code_JEDEC: MO-169-AC; ComponentLink1Description: Manufacturer URL; ComponentLink1URL: http://www.national.com/; ComponentLink2Description: LM9070 Datasheet; ComponentLink2URL: http://www.national.com/ds/LM/LM9070.pdf; ComponentLink3Description: LM9070 Web Page; ComponentLink3URL: http://www.national.com/pf/LM/LM9070.html; ComponentLink4Description: TS7B Package Page; ComponentLink4URL: http://www.national.com/packaging/folders/ts7b.html
footprint TS7B_N (D2-PAK, 8-Leads, Body 8.6x10.2mm, Pitch 1.27mm, Lead Span 14.1mm, IPC Medium Density)
footprint TS7B_L (D2-PAK, 8-Leads, Body 8.6x10.2mm, Pitch 1.27mm, Lead Span 14.1mm, IPC High Density)
footprint TS7B_M (D2-PAK, 8-Leads, Body 8.6x10.2mm, Pitch 1.27mm, Lead Span 14.1mm, IPC Low Density)
pins: 1 IN (power), 2 ON/OFF (in), 3 RST (out), 4 GND (power), 5 CDLY, 6 Keep-Alive (in), 7 OUT (power), 8 TAB (power)

## LM9070SX
designator U?
Low-Dropout System Voltage Regulator with Keep-Alive ON/OFF Control, 7-pin TO-263; PartNumber: LM9070SX; Manufacturer: National Semiconductor; PackageTopMarking: NSUZXYTTE#*LM9070S; PowerWise: N; CompType: LDO IC; High-Reliability: Y; DatasheetVersion: Mar-2005; PackageVersion: revE, Jul-2003; PackageReference: TS7B; PackageDescription: TO-263, Molded, .400 x .390 x .180in Body, 7 Lead, .050in Pitch, Surface Mount; RoHS: N; PinCount: 7; Code_JEDEC: MO-169-AC; ComponentLink1Description: Manufacturer URL; ComponentLink1URL: http://www.national.com/; ComponentLink2Description: LM9070 Datasheet; ComponentLink2URL: http://www.national.com/ds/LM/LM9070.pdf; ComponentLink3Description: LM9070 Web Page; ComponentLink3URL: http://www.national.com/pf/LM/LM9070.html; ComponentLink4Description: TS7B Package Page; ComponentLink4URL: http://www.national.com/packaging/folders/ts7b.html
footprint TS7B_N (D2-PAK, 8-Leads, Body 8.6x10.2mm, Pitch 1.27mm, Lead Span 14.1mm, IPC Medium Density)
footprint TS7B_L (D2-PAK, 8-Leads, Body 8.6x10.2mm, Pitch 1.27mm, Lead Span 14.1mm, IPC High Density)
footprint TS7B_M (D2-PAK, 8-Leads, Body 8.6x10.2mm, Pitch 1.27mm, Lead Span 14.1mm, IPC Low Density)
pins: 1 IN (power), 2 ON/OFF (in), 3 RST (out), 4 GND (power), 5 CDLY, 6 Keep-Alive (in), 7 OUT (power), 8 TAB (power)

## LM9071S
designator U?
Low-Dropout System Voltage Regulator with Delayed Rest, 5-pin TO-263; PartNumber: LM9071S; Manufacturer: National Semiconductor; PackageTopMarking: NSUZXYTTE#*LM9071S; PowerWise: N; CompType: LDO IC; High-Reliability: Y; DatasheetVersion: Mar-2001; PackageVersion: revD, Apr-2005; PackageReference: TS5B; PackageDescription: TO-263, Molded, .400 x .390 x .180in, 5 Lead, .067in Pitch, Surface Mount; RoHS: N; PinCount: 5; Code_JEDEC: MO-169-AB; ComponentLink1Description: Manufacturer URL; ComponentLink1URL: http://www.national.com/; ComponentLink2Description: LM9071 Datasheet; ComponentLink2URL: http://www.national.com/ds/LM/LM9071.pdf; ComponentLink3Description: LM9071 Web Page; ComponentLink3URL: http://www.national.com/pf/LM/LM9071.html; ComponentLink4Description: TS5B Package Page; ComponentLink4URL: http://www.national.com/packaging/folders/ts5b.html
footprint TS5B_N (D2-PAK, 6-Leads, Body 8.6x10.2mm, Pitch 1.7mm, Lead Span 14.1mm, IPC Medium Density)
footprint TS5B_L (D2-PAK, 6-Leads, Body 8.6x10.2mm, Pitch 1.7mm, Lead Span 14.1mm, IPC High Density)
footprint TS5B_M (D2-PAK, 6-Leads, Body 8.6x10.2mm, Pitch 1.7mm, Lead Span 14.1mm, IPC Low Density)
pins: 1 IN (power), 2 RST (out), 3 GND (power), 4 CDLY, 5 OUT (power), 6 TAB (power)

## LM9071S/NOPB
designator U?
Low-Dropout System Voltage Regulator with Delayed Rest, 5-pin TO-263; PartNumber: LM9071S/NOPB; Manufacturer: National Semiconductor; PackageTopMarking: NSUZXYTTE#*LM9071S; PowerWise: N; CompType: LDO IC; High-Reliability: Y; DatasheetVersion: Mar-2001; PackageVersion: revD, Apr-2005; PackageReference: TS5B; PackageDescription: TO-263, Molded, .400 x .390 x .180in, 5 Lead, .067in Pitch, Surface Mount; RoHS: Y; PinCount: 5; Code_JEDEC: MO-169-AB; ComponentLink1Description: Manufacturer URL; ComponentLink1URL: http://www.national.com/; ComponentLink2Description: LM9071 Datasheet; ComponentLink2URL: http://www.national.com/ds/LM/LM9071.pdf; ComponentLink3Description: LM9071 Web Page; ComponentLink3URL: http://www.national.com/pf/LM/LM9071.html; ComponentLink4Description: TS5B Package Page; ComponentLink4URL: http://www.national.com/packaging/folders/ts5b.html
footprint TS5B_N (D2-PAK, 6-Leads, Body 8.6x10.2mm, Pitch 1.7mm, Lead Span 14.1mm, IPC Medium Density)
footprint TS5B_L (D2-PAK, 6-Leads, Body 8.6x10.2mm, Pitch 1.7mm, Lead Span 14.1mm, IPC High Density)
footprint TS5B_M (D2-PAK, 6-Leads, Body 8.6x10.2mm, Pitch 1.7mm, Lead Span 14.1mm, IPC Low Density)
pins: 1 IN (power), 2 RST (out), 3 GND (power), 4 CDLY, 5 OUT (power), 6 TAB (power)

## LM9071SX
designator U?
Low-Dropout System Voltage Regulator with Delayed Rest, 5-pin TO-263; PartNumber: LM9071SX; Manufacturer: National Semiconductor; PackageTopMarking: NSUZXYTTE#*LM9071S; PowerWise: N; CompType: LDO IC; High-Reliability: Y; DatasheetVersion: Mar-2001; PackageVersion: revD, Apr-2005; PackageReference: TS5B; PackageDescription: TO-263, Molded, .400 x .390 x .180in, 5 Lead, .067in Pitch, Surface Mount; RoHS: N; PinCount: 5; Code_JEDEC: MO-169-AB; ComponentLink1Description: Manufacturer URL; ComponentLink1URL: http://www.national.com/; ComponentLink2Description: LM9071 Datasheet; ComponentLink2URL: http://www.national.com/ds/LM/LM9071.pdf; ComponentLink3Description: LM9071 Web Page; ComponentLink3URL: http://www.national.com/pf/LM/LM9071.html; ComponentLink4Description: TS5B Package Page; ComponentLink4URL: http://www.national.com/packaging/folders/ts5b.html
footprint TS5B_N (D2-PAK, 6-Leads, Body 8.6x10.2mm, Pitch 1.7mm, Lead Span 14.1mm, IPC Medium Density)
footprint TS5B_L (D2-PAK, 6-Leads, Body 8.6x10.2mm, Pitch 1.7mm, Lead Span 14.1mm, IPC High Density)
footprint TS5B_M (D2-PAK, 6-Leads, Body 8.6x10.2mm, Pitch 1.7mm, Lead Span 14.1mm, IPC Low Density)
pins: 1 IN (power), 2 RST (out), 3 GND (power), 4 CDLY, 5 OUT (power), 6 TAB (power)

## LM9074M
designator U?
Low-Dropout System Voltage Regulator with Keep-Alive ON/OFF Control, 14-pin Narrow SOIC; PartNumber: LM9074M; Manufacturer: National Semiconductor; PackageTopMarking: NSUZXYTTE#*LM9074M; PowerWise: N; CompType: LDO IC; High-Reliability: Y; DatasheetVersion: Nov-2005; PackageVersion: revJ, Jan-1996; PackageReference: M14A; PackageDescription: Molded Package S.O., .150in Wide, 14 Lead; RoHS: N; PinCount: 14; Code_JEDEC: MS-012AB; Code_IPC: SOIC127P600-14; ComponentLink1Description: Manufacturer URL; ComponentLink1URL: http://www.national.com/; ComponentLink2Description: LM9074 Datasheet; ComponentLink2URL: http://www.national.com/ds/LM/LM9074.pdf; ComponentLink3Description: LM9074 Web Page; ComponentLink3URL: http://www.national.com/pf/LM/LM9074.html; ComponentLink4Description: M14A Package Page; ComponentLink4URL: http://www.national.com/packaging/folders/m14a.html
footprint M14A_N (SOIC, 14-Leads, Body 8.6x3.9mm, Pitch 1.27mm, IPC Medium Density)
footprint M14A_L (SOIC, 14-Leads, Body 8.6x3.9mm, Pitch 1.27mm, IPC High Density)
footprint M14A_M (SOIC, 14-Leads, Body 8.6x3.9mm, Pitch 1.27mm, IPC Low Density)
pins: 1 IN (power), 2 NC, 3 SUB, 4 SUB, 5 SUB, 6 ON/OFF (in), 7 RST (out), 8 CDLY, 9 Keep-Alive (in), 10 SUB, 11 SUB, 12 SUB, 13 OUT (power), 14 GND (power)

## LM9076BMA-3.3
designator U?
150mA Ultra-Low Quiescent Current LDO Regulator with Delayed Reset Output, 8-pin Narrow SOIC; PartNumber: LM9076BMA-3.3; Manufacturer: National Semiconductor; PackageTopMarking: NSZXTT*9076B*MA3.3; PowerWise: N; CompType: LDO IC; High-Reliability: Y; DatasheetVersion: Nov-2007; PackageVersion: revM, May-2009; PackageReference: M08A; PackageDescription: SOIC Narrow, 4.9 x 3.9 x 1.45mm, 8 Lead, 1.27mm Pitch; RoHS: N; PinCount: 8; Code_JEDEC: MS-012-AA; Code_IPC: SOIC127P600-8; ComponentLink1Description: Manufacturer URL; ComponentLink1URL: http://www.national.com/; ComponentLink2Description: LM9076 Datasheet; ComponentLink2URL: http://www.national.com/ds/LM/LM9076.pdf; ComponentLink3Description: LM9076 Web Page; ComponentLink3URL: http://www.national.com/pf/LM/LM9076.html; ComponentLink4Description: M08A Package Page; ComponentLink4URL: http://www.national.com/packaging/folders/m08a.html
footprint M08A_N (SOIC, 8-Leads, Body 4.9x3.9mm, Pitch 1.27mm, IPC Medium Density)
footprint M08A_L (SOIC, 8-Leads, Body 4.9x3.9mm, Pitch 1.27mm, IPC High Density)
footprint M08A_M (SOIC, 8-Leads, Body 4.9x3.9mm, Pitch 1.27mm, IPC Low Density)
pins: 1 ~{RST} (oc), 2 CDLY, 3 SD (in), 4 GND (power), 5 IN (power), 6 NC, 7 NC, 8 OUT (power)

## LM9076BMA-5.0
designator U?
150mA Ultra-Low Quiescent Current LDO Regulator with Delayed Reset Output, 8-pin Narrow SOIC; PartNumber: LM9076BMA-5.0; Manufacturer: National Semiconductor; PackageTopMarking: NSZXTT*9076B*MA5.0; PowerWise: N; CompType: LDO IC; High-Reliability: Y; DatasheetVersion: Nov-2007; PackageVersion: revM, May-2009; PackageReference: M08A; PackageDescription: SOIC Narrow, 4.9 x 3.9 x 1.45mm, 8 Lead, 1.27mm Pitch; RoHS: N; PinCount: 8; Code_JEDEC: MS-012-AA; Code_IPC: SOIC127P600-8; ComponentLink1Description: Manufacturer URL; ComponentLink1URL: http://www.national.com/; ComponentLink2Description: LM9076 Datasheet; ComponentLink2URL: http://www.national.com/ds/LM/LM9076.pdf; ComponentLink3Description: LM9076 Web Page; ComponentLink3URL: http://www.national.com/pf/LM/LM9076.html; ComponentLink4Description: M08A Package Page; ComponentLink4URL: http://www.national.com/packaging/folders/m08a.html
footprint M08A_N (SOIC, 8-Leads, Body 4.9x3.9mm, Pitch 1.27mm, IPC Medium Density)
footprint M08A_L (SOIC, 8-Leads, Body 4.9x3.9mm, Pitch 1.27mm, IPC High Density)
footprint M08A_M (SOIC, 8-Leads, Body 4.9x3.9mm, Pitch 1.27mm, IPC Low Density)
pins: 1 ~{RST} (oc), 2 CDLY, 3 SD (in), 4 GND (power), 5 IN (power), 6 NC, 7 NC, 8 OUT (power)

## LM9076BMA-5.0/NOPB
designator U?
150mA Ultra-Low Quiescent Current LDO Regulator with Delayed Reset Output, 8-pin Narrow SOIC, Pb-Free; PartNumber: LM9076BMA-5.0/NOPB; Manufacturer: National Semiconductor; PackageTopMarking: NSZXTT*9076B*MA5.0; PowerWise: N; CompType: LDO IC; High-Reliability: Y; DatasheetVersion: Nov-2007; PackageVersion: revM, May-2009; PackageReference: M08A; PackageDescription: SOIC Narrow, 4.9 x 3.9 x 1.45mm, 8 Lead, 1.27mm Pitch; RoHS: Y; PinCount: 8; Code_JEDEC: MS-012-AA; Code_IPC: SOIC127P600-8; ComponentLink1Description: Manufacturer URL; ComponentLink1URL: http://www.national.com/; ComponentLink2Description: LM9076 Datasheet; ComponentLink2URL: http://www.national.com/ds/LM/LM9076.pdf; ComponentLink3Description: LM9076 Web Page; ComponentLink3URL: http://www.national.com/pf/LM/LM9076.html; ComponentLink4Description: M08A Package Page; ComponentLink4URL: http://www.national.com/packaging/folders/m08a.html
footprint M08A_N (SOIC, 8-Leads, Body 4.9x3.9mm, Pitch 1.27mm, IPC Medium Density)
footprint M08A_L (SOIC, 8-Leads, Body 4.9x3.9mm, Pitch 1.27mm, IPC High Density)
footprint M08A_M (SOIC, 8-Leads, Body 4.9x3.9mm, Pitch 1.27mm, IPC Low Density)
pins: 1 ~{RST} (oc), 2 CDLY, 3 SD (in), 4 GND (power), 5 IN (power), 6 NC, 7 NC, 8 OUT (power)

## LM9076BMAX-3.3
designator U?
150mA Ultra-Low Quiescent Current LDO Regulator with Delayed Reset Output, 8-pin Narrow SOIC; PartNumber: LM9076BMAX-3.3; Manufacturer: National Semiconductor; PackageTopMarking: NSZXTT*9076B*MA3.3; PowerWise: N; CompType: LDO IC; High-Reliability: Y; DatasheetVersion: Nov-2007; PackageVersion: revM, May-2009; PackageReference: M08A; PackageDescription: SOIC Narrow, 4.9 x 3.9 x 1.45mm, 8 Lead, 1.27mm Pitch; RoHS: N; PinCount: 8; Code_JEDEC: MS-012-AA; Code_IPC: SOIC127P600-8; ComponentLink1Description: Manufacturer URL; ComponentLink1URL: http://www.national.com/; ComponentLink2Description: LM9076 Datasheet; ComponentLink2URL: http://www.national.com/ds/LM/LM9076.pdf; ComponentLink3Description: LM9076 Web Page; ComponentLink3URL: http://www.national.com/pf/LM/LM9076.html; ComponentLink4Description: M08A Package Page; ComponentLink4URL: http://www.national.com/packaging/folders/m08a.html
footprint M08A_N (SOIC, 8-Leads, Body 4.9x3.9mm, Pitch 1.27mm, IPC Medium Density)
footprint M08A_L (SOIC, 8-Leads, Body 4.9x3.9mm, Pitch 1.27mm, IPC High Density)
footprint M08A_M (SOIC, 8-Leads, Body 4.9x3.9mm, Pitch 1.27mm, IPC Low Density)
pins: 1 ~{RST} (oc), 2 CDLY, 3 SD (in), 4 GND (power), 5 IN (power), 6 NC, 7 NC, 8 OUT (power)

## LM9076BMAX-5.0
designator U?
150mA Ultra-Low Quiescent Current LDO Regulator with Delayed Reset Output, 8-pin Narrow SOIC; PartNumber: LM9076BMAX-5.0; Manufacturer: National Semiconductor; PackageTopMarking: NSZXTT*9076B*MA5.0; PowerWise: N; CompType: LDO IC; High-Reliability: Y; DatasheetVersion: Nov-2007; PackageVersion: revM, May-2009; PackageReference: M08A; PackageDescription: SOIC Narrow, 4.9 x 3.9 x 1.45mm, 8 Lead, 1.27mm Pitch; RoHS: N; PinCount: 8; Code_JEDEC: MS-012-AA; Code_IPC: SOIC127P600-8; ComponentLink1Description: Manufacturer URL; ComponentLink1URL: http://www.national.com/; ComponentLink2Description: LM9076 Datasheet; ComponentLink2URL: http://www.national.com/ds/LM/LM9076.pdf; ComponentLink3Description: LM9076 Web Page; ComponentLink3URL: http://www.national.com/pf/LM/LM9076.html; ComponentLink4Description: M08A Package Page; ComponentLink4URL: http://www.national.com/packaging/folders/m08a.html
footprint M08A_N (SOIC, 8-Leads, Body 4.9x3.9mm, Pitch 1.27mm, IPC Medium Density)
footprint M08A_L (SOIC, 8-Leads, Body 4.9x3.9mm, Pitch 1.27mm, IPC High Density)
footprint M08A_M (SOIC, 8-Leads, Body 4.9x3.9mm, Pitch 1.27mm, IPC Low Density)
pins: 1 ~{RST} (oc), 2 CDLY, 3 SD (in), 4 GND (power), 5 IN (power), 6 NC, 7 NC, 8 OUT (power)

## LM9076QBMA-3.3/NOPB
designator U?
150mA Ultra-Low Quiescent Current LDO Regulator with Delayed Reset Output, 3.3 Vout, Automotive Grade 1, 8-pin Narrow SOIC, 95 Rail; PartNumber: LM9076QBMA-3.3/NOPB; Manufacturer: National Semiconductor; PackageTopMarking: NSZXTT*9076B*QMA3.3; PowerWise: N; CompType: LDO IC; High-Reliability: Y; DatasheetVersion: Apr-2011; PackageVersion: revM, May-2009; PackageReference: M08A; PackageDescription: SOIC Narrow, 4.9 x 3.9 x 1.45mm, 8 Lead, 1.27mm Pitch; RoHS: Y; PinCount: 8; Code_JEDEC: MS-012-AA; Code_IPC: SOIC127P600-8; ComponentLink1Description: Manufacturer URL; ComponentLink1URL: http://www.national.com/; ComponentLink2Description: LM9076 Datasheet; ComponentLink2URL: http://www.national.com/ds/LM/LM9076Q.pdf; ComponentLink3Description: LM9076 Web Page; ComponentLink3URL: http://www.national.com/pf/LM/LM9076Q.html; ComponentLink4Description: M08A Package Page; ComponentLink4URL: http://www.national.com/packaging/folders/m08a.html
footprint M08A_N (SOIC, 8-Leads, Body 4.9x3.9mm, Pitch 1.27mm, IPC Medium Density)
footprint M08A_L (SOIC, 8-Leads, Body 4.9x3.9mm, Pitch 1.27mm, IPC High Density)
footprint M08A_M (SOIC, 8-Leads, Body 4.9x3.9mm, Pitch 1.27mm, IPC Low Density)
pins: 1 ~{RST} (oc), 2 CDLY, 3 SD (in), 4 GND (power), 5 IN (power), 6 NC, 7 NC, 8 OUT (power)

## LM9076QBMA-5.0/NOPB
designator U?
150mA Ultra-Low Quiescent Current LDO Regulator with Delayed Reset Output, 5 Vout, Automotive Grade 1, 8-pin Narrow SOIC, 95 Rail; PartNumber: LM9076QBMA-5.0/NOPB; Manufacturer: National Semiconductor; PackageTopMarking: NSZXTT*9076B*QMA5.0; PowerWise: N; CompType: LDO IC; High-Reliability: Y; DatasheetVersion: Apr-2011; PackageVersion: revM, May-2009; PackageReference: M08A; PackageDescription: SOIC Narrow, 4.9 x 3.9 x 1.45mm, 8 Lead, 1.27mm Pitch; RoHS: Y; PinCount: 8; Code_JEDEC: MS-012-AA; Code_IPC: SOIC127P600-8; ComponentLink1Description: Manufacturer URL; ComponentLink1URL: http://www.national.com/; ComponentLink2Description: LM9076 Datasheet; ComponentLink2URL: http://www.national.com/ds/LM/LM9076Q.pdf; ComponentLink3Description: LM9076 Web Page; ComponentLink3URL: http://www.national.com/pf/LM/LM9076Q.html; ComponentLink4Description: M08A Package Page; ComponentLink4URL: http://www.national.com/packaging/folders/m08a.html
footprint M08A_N (SOIC, 8-Leads, Body 4.9x3.9mm, Pitch 1.27mm, IPC Medium Density)
footprint M08A_L (SOIC, 8-Leads, Body 4.9x3.9mm, Pitch 1.27mm, IPC High Density)
footprint M08A_M (SOIC, 8-Leads, Body 4.9x3.9mm, Pitch 1.27mm, IPC Low Density)
pins: 1 ~{RST} (oc), 2 CDLY, 3 SD (in), 4 GND (power), 5 IN (power), 6 NC, 7 NC, 8 OUT (power)